# EAGLE library part SAMTEC-FTSH110 (library Traficon)
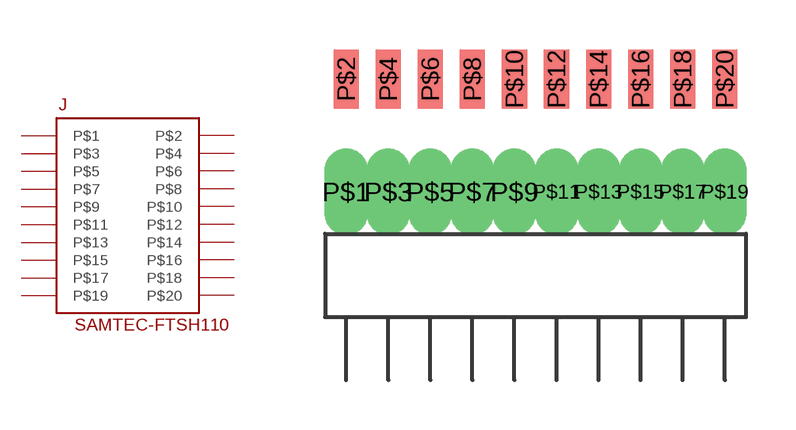
[diagram p159: symbol with the pads of SAMTEC-FTSH110; footprint SAMTEC-FTSH110]

Designator prefix J

## SAMTEC-FTSH110  [SAMTEC-FTSH110]
P$1  P$1
P$2  P$2
P$3  P$3
P$4  P$4
P$5  P$5
P$6  P$6
P$7  P$7
P$8  P$8
P$9  P$9
P$10  P$10
P$11  P$11
P$12  P$12
P$13  P$13
P$14  P$14
P$15  P$15
P$16  P$16
P$17  P$17
P$18  P$18
P$19  P$19
P$20  P$20

## Footprint SAMTEC-FTSH110 (pad centres in mm)
drill 0.8 pad 1.016 long: P$1 -5.715,-2.16; P$3 -4.445,-2.16; P$5 -3.175,-2.16; P$7 -1.905,-2.16; P$9 -0.635,-2.16; P$11 0.635,-2.16; P$13 1.905,-2.16; P$15 3.175,-2.16; P$17 4.445,-2.16; P$19 5.715,-2.16
smd 0.76 x 1.78: P$2 -5.715,1.25; P$4 -4.445,1.25; P$6 -3.175,1.25; P$8 -1.905,1.25; P$10 -0.635,1.25; P$12 0.635,1.25; P$14 1.905,1.25; P$16 3.175,1.25; P$18 4.445,1.25; P$20 5.715,1.25